# Altium schematic symbol library Diodes_inc.SchLib: 4 symbols
Pins are listed as number, name and electrical type; pins without a type are passive.

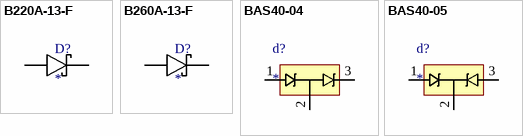
[diagram p0: symbols B220A-13-F to BAS40-05]

## B220A-13-F
designator D?
Schottky Rectifier
footprint SMA (SMA Diode Package)
pins: 1 Kathode, 2 Anode

## B260A-13-F
designator D?
Schottky Rectifier
footprint DO-214AB (SMA)
pins: 1 Kathode, 2 Anode

## BAS40-04
designator d?
footprint SOT23
pins: 1, 2, 3

## BAS40-05
designator d?
footprint SOT23
pins: 1, 2, 3